# EAGLE library part XC3S200A-VQ100 (library microLib)
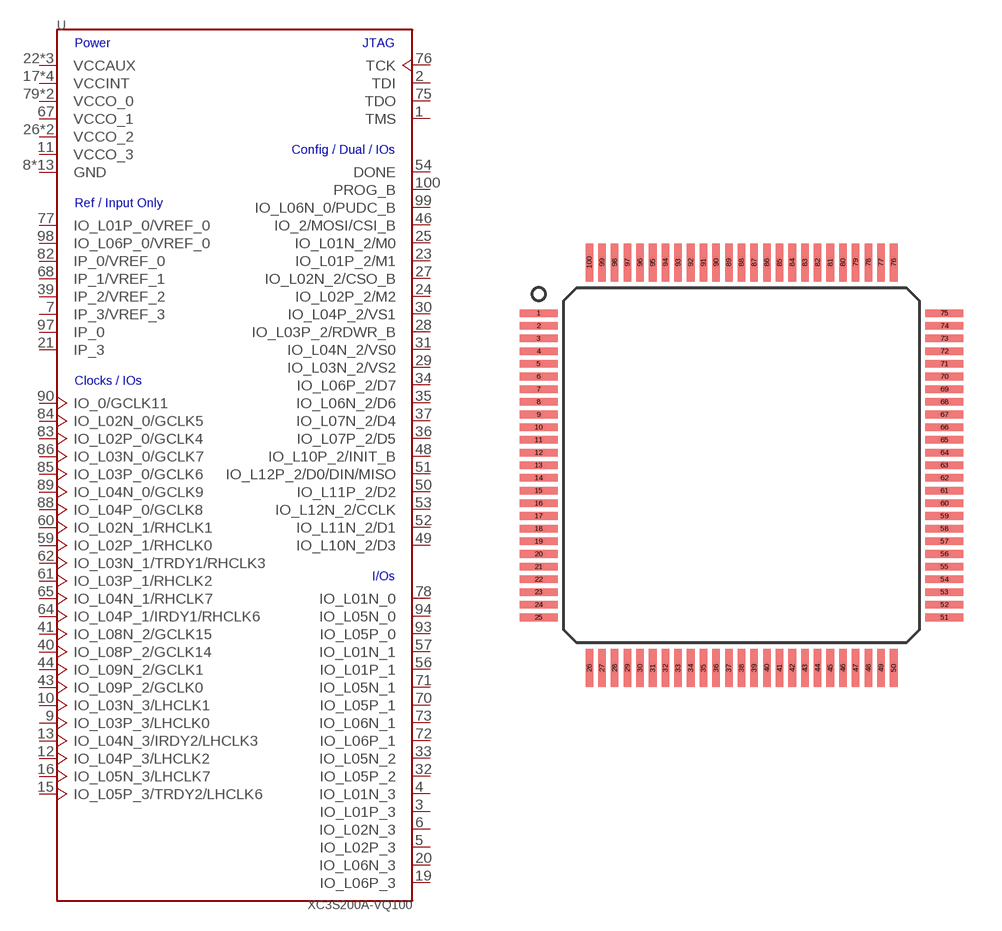
[diagram p3: symbol with the pads of VQFP_100; footprint VQFP_100]

Designator prefix -

## XC3S200A-VQ100  [VQFP_100]
1  TMS  in
2  TDI  in
3  IO_L01P_3
4  IO_L01N_3
5  IO_L02P_3
6  IO_L02N_3
7  IP_3/VREF_3  in
8  GND  pwr
9  IO_L03P_3/LHCLK0
10  IO_L03N_3/LHCLK1
11  VCCO_3  pwr
12  IO_L04P_3/LHCLK2
13  IO_L04N_3/IRDY2/LHCLK3
14  GND  pwr
15  IO_L05P_3/TRDY2/LHCLK6
16  IO_L05N_3/LHCLK7
17  VCCINT  pwr
18  GND  pwr
19  IO_L06P_3
20  IO_L06N_3
21  IP_3  in
22  VCCAUX  pwr
23  IO_L01P_2/M1
24  IO_L02P_2/M2
25  IO_L01N_2/M0
26  VCCO_2  pwr
27  IO_L02N_2/CSO_B
28  IO_L03P_2/RDWR_B
29  IO_L03N_2/VS2
30  IO_L04P_2/VS1
31  IO_L04N_2/VS0
32  IO_L05P_2
33  IO_L05N_2
34  IO_L06P_2/D7
35  IO_L06N_2/D6
36  IO_L07P_2/D5
37  IO_L07N_2/D4
38  VCCINT  pwr
39  IP_2/VREF_2  in
40  IO_L08P_2/GCLK14
41  IO_L08N_2/GCLK15
42  GND  pwr
43  IO_L09P_2/GCLK0
44  IO_L09N_2/GCLK1
45  VCCO_2  pwr
46  IO_2/MOSI/CSI_B
47  GND  pwr
48  IO_L10P_2/INIT_B
49  IO_L10N_2/D3
50  IO_L11P_2/D2
51  IO_L12P_2/D0/DIN/MISO
52  IO_L11N_2/D1
53  IO_L12N_2/CCLK
54  DONE
55  VCCAUX  pwr
56  IO_L01P_1
57  IO_L01N_1
58  GND  pwr
59  IO_L02P_1/RHCLK0
60  IO_L02N_1/RHCLK1
61  IO_L03P_1/RHCLK2
62  IO_L03N_1/TRDY1/RHCLK3
63  GND  pwr
64  IO_L04P_1/IRDY1/RHCLK6
65  IO_L04N_1/RHCLK7
66  VCCINT  pwr
67  VCCO_1  pwr
68  IP_1/VREF_1  in
69  GND  pwr
70  IO_L05P_1
71  IO_L05N_1
72  IO_L06P_1
73  IO_L06N_1
74  GND  pwr
75  TDO  out
76  TCK  in
77  IO_L01P_0/VREF_0
78  IO_L01N_0
79  VCCO_0  pwr
80  GND  pwr
81  VCCINT  pwr
82  IP_0/VREF_0  in
83  IO_L02P_0/GCLK4
84  IO_L02N_0/GCLK5
85  IO_L03P_0/GCLK6
86  IO_L03N_0/GCLK7
87  GND  pwr
88  IO_L04P_0/GCLK8
89  IO_L04N_0/GCLK9
90  IO_0/GCLK11
91  GND  pwr
92  VCCAUX  pwr
93  IO_L05P_0
94  IO_L05N_0
95  GND  pwr
96  VCCO_0  pwr
97  IP_0  in
98  IO_L06P_0/VREF_0
99  IO_L06N_0/PUDC_B
100  PROG_B

## Footprint VQFP_100 (pad centres in mm)
smd 1.5 x 0.3: 1 -8,6; 2 -8,5.5; 3 -8,5; 4 -8,4.5; 5 -8,4; 6 -8,3.5; 7 -8,3; 8 -8,2.5; 9 -8,2; 10 -8,1.5; 11 -8,1; 12 -8,0.5; 13 -8,0; 14 -8,-0.5; 15 -8,-1; 16 -8,-1.5; 17 -8,-2; 18 -8,-2.5; 19 -8,-3; 20 -8,-3.5; 21 -8,-4; 22 -8,-4.5; 23 -8,-5; 24 -8,-5.5; 25 -8,-6; 51 8,-6; 52 8,-5.5; 53 8,-5; 54 8,-4.5; 55 8,-4; 56 8,-3.5; 57 8,-3; 58 8,-2.5; 59 8,-2; 60 8,-1.5; 61 8,-1; 62 8,-0.5; 63 8,0; 64 8,0.5; 65 8,1; 66 8,1.5; 67 8,2; 68 8,2.5; 69 8,3; 70 8,3.5; 71 8,4; 72 8,4.5; 73 8,5; 74 8,5.5; 75 8,6
smd 0.3 x 1.5: 26 -6,-8; 27 -5.5,-8; 28 -5,-8; 29 -4.5,-8; 30 -4,-8; 31 -3.5,-8; 32 -3,-8; 33 -2.5,-8; 34 -2,-8; 35 -1.5,-8; 36 -1,-8; 37 -0.5,-8; 38 0,-8; 39 0.5,-8; 40 1,-8; 41 1.5,-8; 42 2,-8; 43 2.5,-8; 44 3,-8; 45 3.5,-8; 46 4,-8; 47 4.5,-8; 48 5,-8; 49 5.5,-8; 50 6,-8; 76 6,8; 77 5.5,8; 78 5,8; 79 4.5,8; 80 4,8; 81 3.5,8; 82 3,8; 83 2.5,8; 84 2,8; 85 1.5,8; 86 1,8; 87 0.5,8; 88 0,8; 89 -0.5,8; 90 -1,8; 91 -1.5,8; 92 -2,8; 93 -2.5,8; 94 -3,8; 95 -3.5,8; 96 -4,8; 97 -4.5,8; 98 -5,8; 99 -5.5,8; 100 -6,8